# Altium schematic symbol library RPi_CM4_Lib_v1.1.SchLib: 2 symbols
Pins are listed as number, name and electrical type; pins without a type are passive.

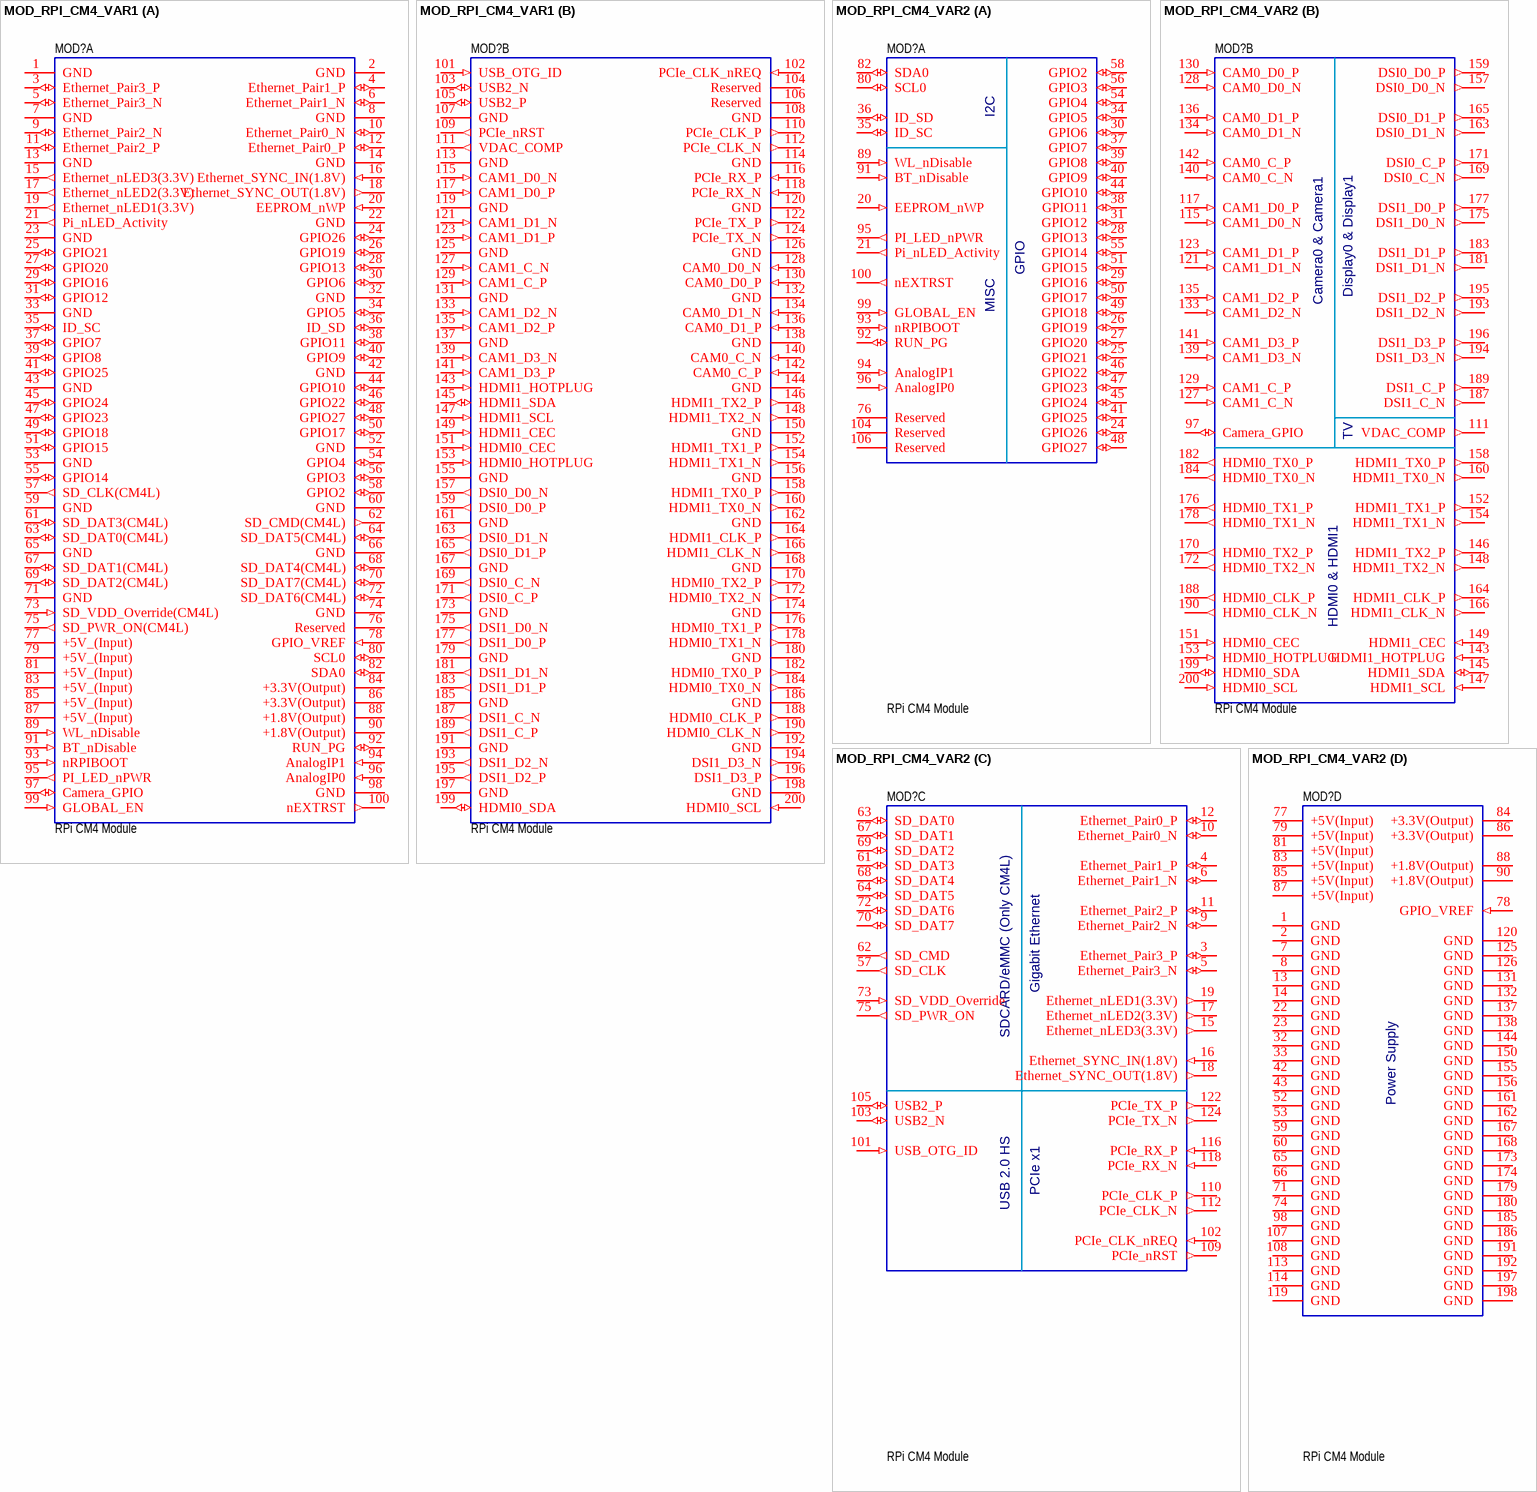
[diagram p0: symbols MOD_RPI_CM4_VAR1 to MOD_RPI_CM4_VAR2]

## MOD_RPI_CM4_VAR1
designator MOD?, comment RPi CM4 Module
PCB Module; RPi Compute Module 4;; Manufacturer: Raspberry Pi Foundation; MPN: CM4-X-0X-0XX; Component Body: 55 x 40 mm; Component Subtype: SOM/SBC Module; Packaging Type: Cardboard Box; Pin Pitch: 0.5mm; Power Supply: 5.0 VDC; Component Height: 4.7mm Deep; Component Type: PCB Module; Features: Broadcom BCM2711 SoC; 4x Cortex-A72; up to 8GB LPDDR4; up to 32GB eMMC, 1x USB; 1x PCIe; 2x MIPI CSI/DSI, 2x HDMI; 28x GPIO;; ID: MOD-0001; Mounting Type: Board-to-Board; Operating Temperature: 0°C to +85°C; Package (Case): PCB Module; Pin Count: 200; ROHS Status: RoHS Compliant; Value: RPi CM4 Module
part A pins: 1 GND (power), 2 GND (power), 3 Ethernet_Pair3_P (io), 4 Ethernet_Pair1_P (io), 5 Ethernet_Pair3_N (io), 6 Ethernet_Pair1_N (io), 7 GND (power), 8 GND (power), 9 Ethernet_Pair2_N (io), 10  Ethernet_Pair0_N (io), 11 Ethernet_Pair2_P (io), 12 Ethernet_Pair0_P (io), 13 GND (power), 14 GND (power), 15 Ethernet_nLED3(3.3V) (out), 16 Ethernet_SYNC_IN(1.8V) (in), 17 Ethernet_nLED2(3.3V) (out), 18 Ethernet_SYNC_OUT(1.8V) (out), 19 Ethernet_nLED1(3.3V) (out), 20 EEPROM_nWP (in), 21 Pi_nLED_Activity (out), 22 GND (power), 23 GND (power), 24 GPIO26 (io), 25 GPIO21 (io), 26 GPIO19 (io), 27 GPIO20 (io), 28 GPIO13 (io), 29 GPIO16 (io), 30 GPIO6 (io), 31 GPIO12 (io), 32 GND (power), 33 GND (power), 34 GPIO5 (io), 35 ID_SC (io), 36 ID_SD (io), 37 GPIO7 (io), 38 GPIO11 (io), 39 GPIO8 (io), 40 GPIO9 (io), 41 GPIO25 (io), 42 GND (power), 43 GND (power), 44 GPIO10 (io), 45 GPIO24 (io), 46 GPIO22 (io), 47 GPIO23 (io), 48 GPIO27 (io), 49 GPIO18 (io), 50 GPIO17 (io), 51 GPIO15 (io), 52 GND (power), 53 GND (power), 54 GPIO4 (io), 55 GPIO14 (io), 56 GPIO3 (io), 57 SD_CLK(CM4L) (out), 58 GPIO2 (io), 59 GND (power), 60 GND (power), 61 SD_DAT3(CM4L) (io), 62 SD_CMD(CM4L) (out), 63 SD_DAT0(CM4L) (io), 64 SD_DAT5(CM4L) (io), 65 GND (power), 66 GND (power), 67 SD_DAT1(CM4L) (io), 68 SD_DAT4(CM4L) (io), 69 SD_DAT2(CM4L) (io), 70 SD_DAT7(CM4L) (io), 71 GND (power), 72 SD_DAT6(CM4L) (io), 73 SD_VDD_Override(CM4L) (in), 74 GND (power), 75 SD_PWR_ON(CM4L) (out), 76 Reserved, 77 +5V_(Input) (power), 78 GPIO_VREF (in), 79 +5V_(Input) (power), 80 SCL0 (io), 81 +5V_(Input) (power), 82 SDA0 (io), 83 +5V_(Input) (power), 84 +3.3V(Output) (power), 85 +5V_(Input) (power), 86 +3.3V(Output) (power), 87 +5V_(Input) (power), 88 +1.8V(Output) (power), 89 WL_nDisable (in), 90 +1.8V(Output) (power), 91 BT_nDisable (in), 92 RUN_PG (io), 93 nRPIBOOT (in), 94 AnalogIP1 (in), 95 PI_LED_nPWR (out), 96 AnalogIP0 (in), 97 Camera_GPIO (io), 98 GND (power), 99 GLOBAL_EN (in), 100 nEXTRST (out)
part B pins: 101 USB_OTG_ID (in), 102 PCIe_CLK_nREQ (in), 103 USB2_N (io), 104 Reserved, 105 USB2_P (io), 106 Reserved, 107 GND (power), 108 GND (power), 109 PCIe_nRST (out), 110 PCIe_CLK_P (out), 111 VDAC_COMP (out), 112 PCIe_CLK_N (out), 113 GND (power), 114 GND (power), 115 CAM1_D0_N (in), 116 PCIe_RX_P (in), 117 CAM1_D0_P (in), 118 PCIe_RX_N (in), 119 GND (power), 120 GND (power), 121 CAM1_D1_N (in), 122 PCIe_TX_P (out), 123 CAM1_D1_P (in), 124 PCIe_TX_N (out), 125 GND (power), 126 GND (power), 127 CAM1_C_N (in), 128 CAM0_D0_N (in), 129 CAM1_C_P (in), 130 CAM0_D0_P (in), 131 GND (power), 132 GND (power), 133 CAM1_D2_N (in), 134 CAM0_D1_N (in), 135 CAM1_D2_P (in), 136 CAM0_D1_P (in), 137 GND (power), 138 GND (power), 139 CAM1_D3_N (in), 140 CAM0_C_N (in), 141 CAM1_D3_P (in), 142 CAM0_C_P (in), 143 HDMI1_HOTPLUG (in), 144 GND (power), 145 HDMI1_SDA (io), 146 HDMI1_TX2_P (out), 147 HDMI1_SCL (in), 148 HDMI1_TX2_N (out), 149 HDMI1_CEC (in), 150 GND (power), 151 HDMI0_CEC (in), 152 HDMI1_TX1_P (out), 153 HDMI0_HOTPLUG (in), 154 HDMI1_TX1_N (out), 155 GND (power), 156 GND (power), 157 DSI0_D0_N (out), 158 HDMI1_TX0_P (out), 159 DSI0_D0_P (out), 160 HDMI1_TX0_N (out), 161 GND (power), 162 GND (power), 163 DSI0_D1_N (out), 164 HDMI1_CLK_P (out), 165 DSI0_D1_P (out), 166 HDMI1_CLK_N (out), 167 GND (power), 168 GND (power), 169 DSI0_C_N (out), 170 HDMI0_TX2_P (out), 171 DSI0_C_P (out), 172 HDMI0_TX2_N (out), 173 GND (power), 174 GND (power), 175 DSI1_D0_N (out), 176 HDMI0_TX1_P (out), 177 DSI1_D0_P (out), 178 HDMI0_TX1_N (out), 179 GND (power), 180 GND (power), 181 DSI1_D1_N (out), 182 HDMI0_TX0_P (out), 183 DSI1_D1_P (out), 184 HDMI0_TX0_N (out), 185 GND (power), 186 GND (power), 187 DSI1_C_N (out), 188 HDMI0_CLK_P (out), 189 DSI1_C_P (out), 190 HDMI0_CLK_N (out), 191 GND (power), 192 GND (power), 193 DSI1_D2_N (out), 194 DSI1_D3_N (out), 195 DSI1_D2_P (out), 196 DSI1_D3_P (out), 197 GND (power), 198 GND (power), 199 HDMI0_SDA (io), 200 HDMI0_SCL (in)

## MOD_RPI_CM4_VAR2
designator MOD?, comment RPi CM4 Module
PCB Module; RPi Compute Module 4;; Manufacturer: Raspberry Pi Foundation; MPN: CM4-X-0X-0XX; Component Body: 55 x 40 mm; Component Subtype: SOM/SBC Module; Packaging Type: Cardboard Box; Pin Pitch: 0.5mm; Power Supply: 5.0 VDC; Component Height: 4.7mm Deep; Component Type: PCB Module; Features: Broadcom BCM2711 SoC; 4x Cortex-A72; up to 8GB LPDDR4; up to 32GB eMMC, 1x USB; 1x PCIe; 2x MIPI CSI/DSI, 2x HDMI; 28x GPIO;; ID: MOD-0002; Mounting Type: Board-to-Board; Operating Temperature: 0°C to +85°C; Package (Case): PCB Module; Pin Count: 200; ROHS Status: RoHS Compliant; Value: RPi CM4 Module
part A pins: 20 EEPROM_nWP (in), 21 Pi_nLED_Activity (out), 24 GPIO26 (io), 25 GPIO21 (io), 26 GPIO19 (io), 27 GPIO20 (io), 28 GPIO13 (io), 29 GPIO16 (io), 30 GPIO6 (io), 31 GPIO12 (io), 34 GPIO5 (io), 35 ID_SC (io), 36 ID_SD (io), 37 GPIO7 (io), 38 GPIO11 (io), 39 GPIO8 (io), 40 GPIO9 (io), 41 GPIO25 (io), 44 GPIO10 (io), 45 GPIO24 (io), 46 GPIO22 (io), 47 GPIO23 (io), 48 GPIO27 (io), 49 GPIO18 (io), 50 GPIO17 (io), 51 GPIO15 (io), 54 GPIO4 (io), 55 GPIO14 (io), 56 GPIO3 (io), 58 GPIO2 (io), 76 Reserved, 80 SCL0 (io), 82 SDA0 (io), 89 WL_nDisable (in), 91 BT_nDisable (in), 92 RUN_PG (io), 93 nRPIBOOT (in), 94 AnalogIP1 (in), 95 PI_LED_nPWR (out), 96 AnalogIP0 (in), 99 GLOBAL_EN (in), 100 nEXTRST (out), 104 Reserved, 106 Reserved
part B pins: 97 Camera_GPIO (io), 111 VDAC_COMP (out), 115 CAM1_D0_N (in), 117 CAM1_D0_P (in), 121 CAM1_D1_N (in), 123 CAM1_D1_P (in), 127 CAM1_C_N (in), 128 CAM0_D0_N (in), 129 CAM1_C_P (in), 130 CAM0_D0_P (in), 133 CAM1_D2_N (in), 134 CAM0_D1_N (in), 135 CAM1_D2_P (in), 136 CAM0_D1_P (in), 139 CAM1_D3_N (in), 140 CAM0_C_N (in), 141 CAM1_D3_P (in), 142 CAM0_C_P (in), 143 HDMI1_HOTPLUG (in), 145 HDMI1_SDA (io), 146 HDMI1_TX2_P (out), 147 HDMI1_SCL (in), 148 HDMI1_TX2_N (out), 149 HDMI1_CEC (in), 151 HDMI0_CEC (in), 152 HDMI1_TX1_P (out), 153 HDMI0_HOTPLUG (in), 154 HDMI1_TX1_N (out), 157 DSI0_D0_N (out), 158 HDMI1_TX0_P (out), 159 DSI0_D0_P (out), 160 HDMI1_TX0_N (out), 163 DSI0_D1_N (out), 164 HDMI1_CLK_P (out), 165 DSI0_D1_P (out), 166 HDMI1_CLK_N (out), 169 DSI0_C_N (out), 170 HDMI0_TX2_P (out), 171 DSI0_C_P (out), 172 HDMI0_TX2_N (out), 175 DSI1_D0_N (out), 176 HDMI0_TX1_P (out), 177 DSI1_D0_P (out), 178 HDMI0_TX1_N (out), 181 DSI1_D1_N (out), 182 HDMI0_TX0_P (out), 183 DSI1_D1_P (out), 184 HDMI0_TX0_N (out), 187 DSI1_C_N (out), 188 HDMI0_CLK_P (out), 189 DSI1_C_P (out), 190 HDMI0_CLK_N (out), 193 DSI1_D2_N (out), 194 DSI1_D3_N (out), 195 DSI1_D2_P (out), 196 DSI1_D3_P (out), 199 HDMI0_SDA (io), 200 HDMI0_SCL (in)
part C pins: 3 Ethernet_Pair3_P (io), 4 Ethernet_Pair1_P (io), 5 Ethernet_Pair3_N (io), 6 Ethernet_Pair1_N (io), 9 Ethernet_Pair2_N (io), 10  Ethernet_Pair0_N (io), 11 Ethernet_Pair2_P (io), 12 Ethernet_Pair0_P (io), 15 Ethernet_nLED3(3.3V) (out), 16 Ethernet_SYNC_IN(1.8V) (in), 17 Ethernet_nLED2(3.3V) (out), 18 Ethernet_SYNC_OUT(1.8V) (out), 19 Ethernet_nLED1(3.3V) (out), 57 SD_CLK (out), 61 SD_DAT3 (io), 62 SD_CMD (out), 63 SD_DAT0 (io), 64 SD_DAT5 (io), 67 SD_DAT1 (io), 68 SD_DAT4 (io), 69 SD_DAT2 (io), 70 SD_DAT7 (io), 72 SD_DAT6 (io), 73 SD_VDD_Override (in), 75 SD_PWR_ON (out), 101 USB_OTG_ID (in), 102 PCIe_CLK_nREQ (in), 103 USB2_N (io), 105 USB2_P (io), 109 PCIe_nRST (out), 110 PCIe_CLK_P (out), 112 PCIe_CLK_N (out), 116 PCIe_RX_P (in), 118 PCIe_RX_N (in), 122 PCIe_TX_P (out), 124 PCIe_TX_N (out)
part D pins: 1 GND (power), 2 GND (power), 7 GND (power), 8 GND (power), 13 GND (power), 14 GND (power), 22 GND (power), 23 GND (power), 32 GND (power), 33 GND (power), 42 GND (power), 43 GND (power), 52 GND (power), 53 GND (power), 59 GND (power), 60 GND (power), 65 GND (power), 66 GND (power), 71 GND (power), 74 GND (power), 77 +5V(Input) (power), 78 GPIO_VREF (in), 79 +5V(Input) (power), 81 +5V(Input) (power), 83 +5V(Input) (power), 84 +3.3V(Output) (power), 85 +5V(Input) (power), 86 +3.3V(Output) (power), 87 +5V(Input) (power), 88 +1.8V(Output) (power), 90 +1.8V(Output) (power), 98 GND (power), 107 GND (power), 108 GND (power), 113 GND (power), 114 GND (power), 119 GND (power), 120 GND (power), 125 GND (power), 126 GND (power), 131 GND (power), 132 GND (power), 137 GND (power), 138 GND (power), 144 GND (power), 150 GND (power), 155 GND (power), 156 GND (power), 161 GND (power), 162 GND (power), 167 GND (power), 168 GND (power), 173 GND (power), 174 GND (power), 179 GND (power), 180 GND (power), 185 GND (power), 186 GND (power), 191 GND (power), 192 GND (power), 197 GND (power), 198 GND (power)
part A text: I2C; GPIO; MISC
part B text: Display0 & Display1; Camera0 & Camera1; TV; HDMI0 & HDMI1
part C text: Gigabit Ethernet; SDCARD/eMMC (Only CM4L); PCIe x1; USB 2.0 HS
part D text: Power Supply